# Altium integrated library Linear Technology Charge_Pump.IntLib: 599 symbols (part 11 of 29)
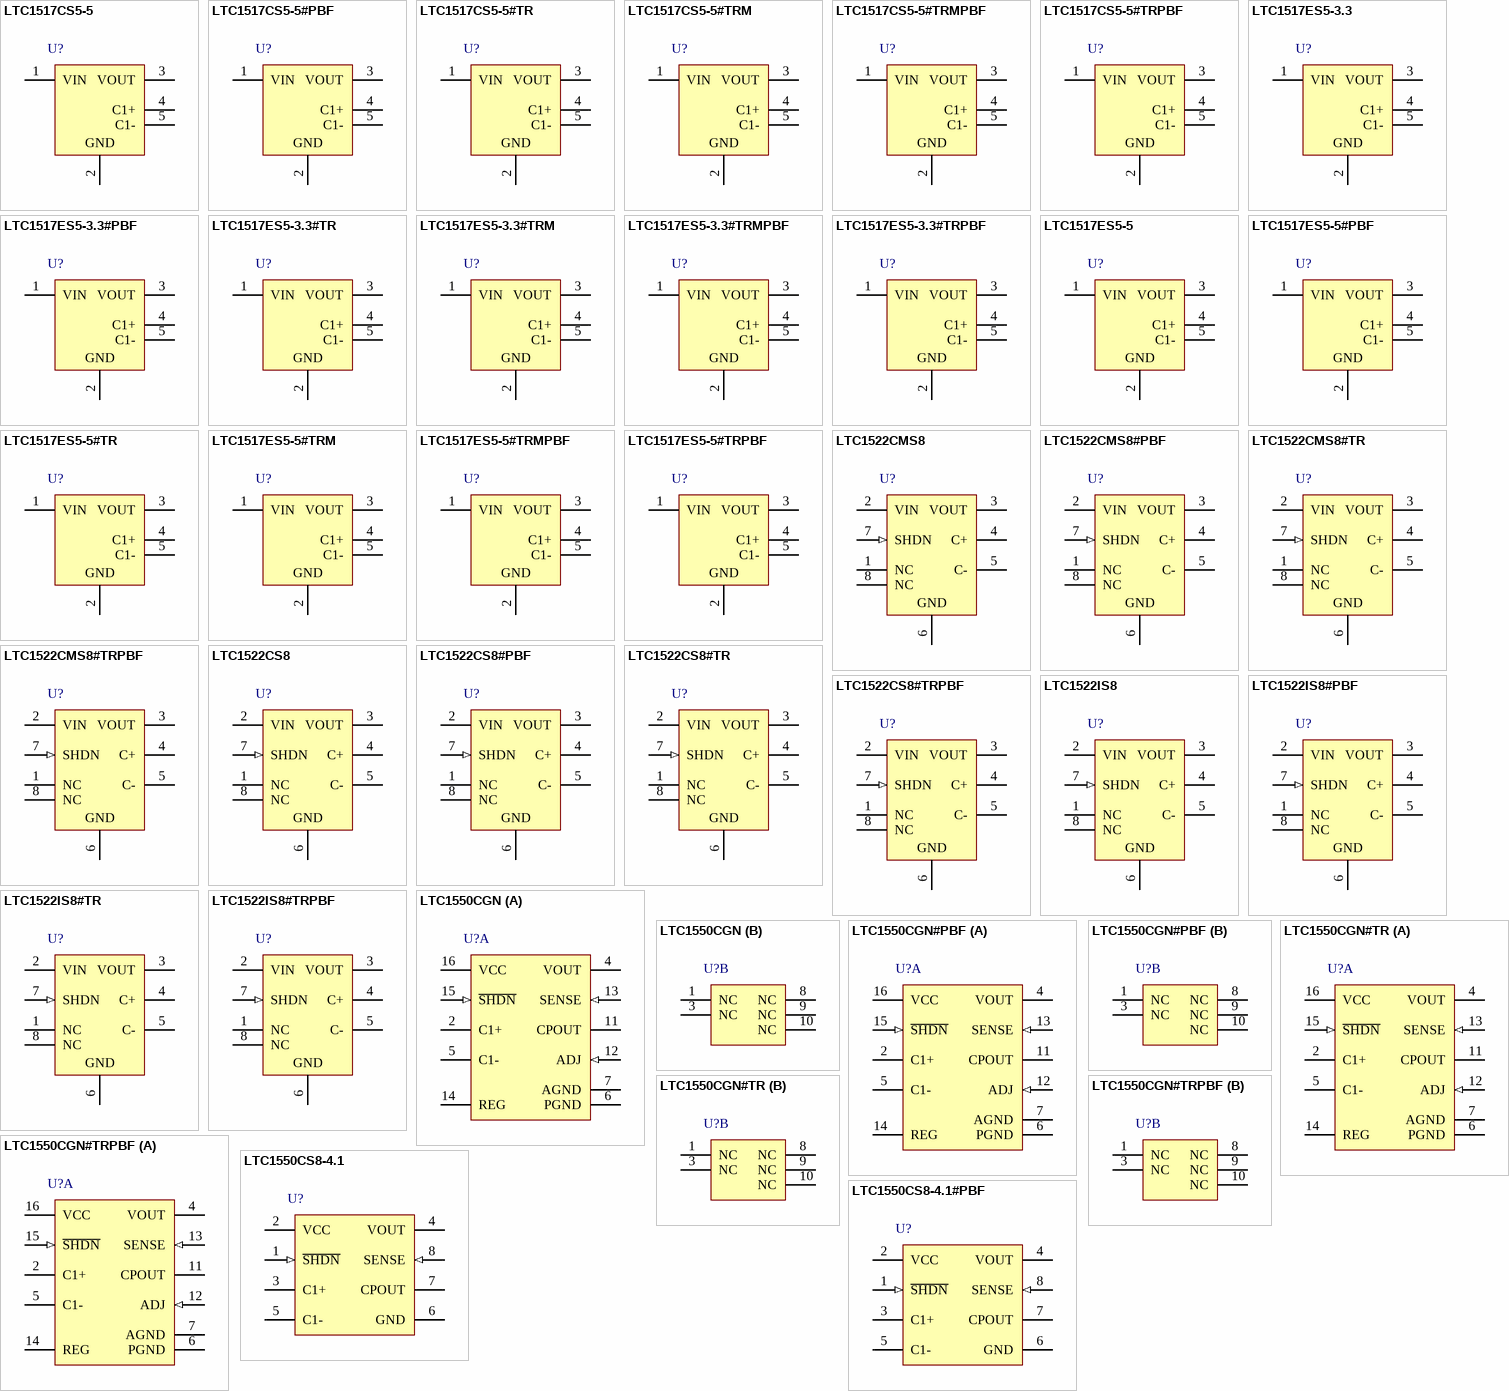
[diagram p26: symbols LTC1517CS5-5 to LTC1550CS8-4.1#PBF]

## LTC1522CS8
designator U?
Micropower, Regulated Charge Pump DC/DC Converter, 2.7 to 5 V Vin, 5 V Vout, 8-pin SOIC (S8-8), 0 to 70 degC; Manufacturer: Linear Technology; PartNumber: LTC1522CS8; Frequency(kHz): 700; Ishutdown(uA): 1; Isupply(mA): 0.006; Max Iout(mA): 20; Vin Max(V): 5; Vin Min(V): 2.7; Voutput: 5V; PackageVersion: Rev. G, 03/2012; PackageReference: S8-8; PackageDescription: 8-Pin Plastic Small Outline (Narrow .150 Inch), Body 4.9 x 3.9 mm, Pitch 1.27 mm; Supplier 1: Digi-Key; Supplier Part Number 1: LTC1522CS8-ND; RoHS: FALSE; Mounting Technology: Surface Mount; ComponentLink1Description: Manufacturer URL; ComponentLink1URL: http://www.linear.com/; ComponentLink2Description: Datasheet; ComponentLink2URL: http://cds.linear.com/docs/en/datasheet/1522f.pdf; ComponentLink3Description: Package Specification; ComponentLink3URL: http://cds.linear.com/docs/en/packaging/05081610_G_SO8.pdf
footprint LT-S8-8_N (SOIC, 8-Leads, Body 5x4mm, Pitch 1.27mm, IPC Medium Density)
footprint LT-S8-8_L (SOIC, 8-Leads, Body 5x4mm, Pitch 1.27mm, IPC High Density)
footprint LT-S8-8_M (SOIC, 8-Leads, Body 5x4mm, Pitch 1.27mm, IPC Low Density)
pins: 1 NC "No Connect.", 2 VIN (power) "Input Supply Voltage. Bypass VIN with a >=3.3uF low ESR capacitor.", 3 VOUT (power) "5V Output Voltage (VOUT  = 0V in Shutdown). Bypass VOUT with a >=3.3uF low ESR capacitor.", 4 C+ "Flying Capacitor, Positive Terminal.", 5 C- "Flying Capacitor, Negative Terminal.", 6 GND (power) "Ground.", 7 SHDN (in) "Active High CMOS Logic-Level Shutdown Input. Drive SHDN low to enable the DC/DC converter. Do not float.", 8 NC "No Connect."

## LTC1522CS8#PBF
designator U?
Micropower, Regulated Charge Pump DC/DC Converter, 2.7 to 5 V Vin, 5 V Vout, 8-pin SOIC (S8-8), 0 to 70 degC, Pb-Free; Manufacturer: Linear Technology; PartNumber: LTC1522CS8#PBF; Frequency(kHz): 700; Ishutdown(uA): 1; Isupply(mA): 0.006; Max Iout(mA): 20; Vin Max(V): 5; Vin Min(V): 2.7; Voutput: 5V; PackageVersion: Rev. G, 03/2012; PackageReference: S8-8; PackageDescription: 8-Pin Plastic Small Outline (Narrow .150 Inch), Body 4.9 x 3.9 mm, Pitch 1.27 mm; Supplier 1: Digi-Key; Supplier Part Number 1: LTC1522CS8#PBF-ND; Supplier 2: Farnell; Supplier Part Number 2: 1273879; Supplier 3: Newark; Supplier Part Number 3: 56M1785; RoHS: TRUE; Mounting Technology: Surface Mount; ComponentLink1Description: Manufacturer URL; ComponentLink1URL: http://www.linear.com/; ComponentLink2Description: Datasheet; ComponentLink2URL: http://cds.linear.com/docs/en/datasheet/1522f.pdf; ComponentLink3Description: Package Specification; ComponentLink3URL: http://cds.linear.com/docs/en/packaging/05081610_G_SO8.pdf
footprint LT-S8-8_N (SOIC, 8-Leads, Body 5x4mm, Pitch 1.27mm, IPC Medium Density)
footprint LT-S8-8_L (SOIC, 8-Leads, Body 5x4mm, Pitch 1.27mm, IPC High Density)
footprint LT-S8-8_M (SOIC, 8-Leads, Body 5x4mm, Pitch 1.27mm, IPC Low Density)
pins: 1 NC "No Connect.", 2 VIN (power) "Input Supply Voltage. Bypass VIN with a >=3.3uF low ESR capacitor.", 3 VOUT (power) "5V Output Voltage (VOUT  = 0V in Shutdown). Bypass VOUT with a >=3.3uF low ESR capacitor.", 4 C+ "Flying Capacitor, Positive Terminal.", 5 C- "Flying Capacitor, Negative Terminal.", 6 GND (power) "Ground.", 7 SHDN (in) "Active High CMOS Logic-Level Shutdown Input. Drive SHDN low to enable the DC/DC converter. Do not float.", 8 NC "No Connect."

## LTC1522CS8#TR
designator U?
Micropower, Regulated Charge Pump DC/DC Converter, 2.7 to 5 V Vin, 5 V Vout, 8-pin SOIC (S8-8), 0 to 70 degC, Tape and Reel; Manufacturer: Linear Technology; PartNumber: LTC1522CS8#TR; Frequency(kHz): 700; Ishutdown(uA): 1; Isupply(mA): 0.006; Max Iout(mA): 20; Vin Max(V): 5; Vin Min(V): 2.7; Voutput: 5V; PackageVersion: Rev. G, 03/2012; PackageReference: S8-8; PackageDescription: 8-Pin Plastic Small Outline (Narrow .150 Inch), Body 4.9 x 3.9 mm, Pitch 1.27 mm; Supplier 1: Digi-Key; Supplier Part Number 1: LTC1522CS8#TR-ND; Packing: Tape and Reel; RoHS: FALSE; Mounting Technology: Surface Mount; ComponentLink1Description: Manufacturer URL; ComponentLink1URL: http://www.linear.com/; ComponentLink2Description: Datasheet; ComponentLink2URL: http://cds.linear.com/docs/en/datasheet/1522f.pdf; ComponentLink3Description: Package Specification; ComponentLink3URL: http://cds.linear.com/docs/en/packaging/05081610_G_SO8.pdf
footprint LT-S8-8_N (SOIC, 8-Leads, Body 5x4mm, Pitch 1.27mm, IPC Medium Density)
footprint LT-S8-8_L (SOIC, 8-Leads, Body 5x4mm, Pitch 1.27mm, IPC High Density)
footprint LT-S8-8_M (SOIC, 8-Leads, Body 5x4mm, Pitch 1.27mm, IPC Low Density)
pins: 1 NC "No Connect.", 2 VIN (power) "Input Supply Voltage. Bypass VIN with a >=3.3uF low ESR capacitor.", 3 VOUT (power) "5V Output Voltage (VOUT  = 0V in Shutdown). Bypass VOUT with a >=3.3uF low ESR capacitor.", 4 C+ "Flying Capacitor, Positive Terminal.", 5 C- "Flying Capacitor, Negative Terminal.", 6 GND (power) "Ground.", 7 SHDN (in) "Active High CMOS Logic-Level Shutdown Input. Drive SHDN low to enable the DC/DC converter. Do not float.", 8 NC "No Connect."

## LTC1522CS8#TRPBF
designator U?
Micropower, Regulated Charge Pump DC/DC Converter, 2.7 to 5 V Vin, 5 V Vout, 8-pin SOIC (S8-8), 0 to 70 degC, Pb-Free, Tape and Reel; Manufacturer: Linear Technology; PartNumber: LTC1522CS8#TRPBF; Frequency(kHz): 700; Ishutdown(uA): 1; Isupply(mA): 0.006; Max Iout(mA): 20; Vin Max(V): 5; Vin Min(V): 2.7; Voutput: 5V; PackageVersion: Rev. G, 03/2012; PackageReference: S8-8; PackageDescription: 8-Pin Plastic Small Outline (Narrow .150 Inch), Body 4.9 x 3.9 mm, Pitch 1.27 mm; Supplier 1: Digi-Key; Supplier Part Number 1: LTC1522CS8#TRPBF-ND; Packing: Tape and Reel; RoHS: TRUE; Mounting Technology: Surface Mount; ComponentLink1Description: Manufacturer URL; ComponentLink1URL: http://www.linear.com/; ComponentLink2Description: Datasheet; ComponentLink2URL: http://cds.linear.com/docs/en/datasheet/1522f.pdf; ComponentLink3Description: Package Specification; ComponentLink3URL: http://cds.linear.com/docs/en/packaging/05081610_G_SO8.pdf
footprint LT-S8-8_N (SOIC, 8-Leads, Body 5x4mm, Pitch 1.27mm, IPC Medium Density)
footprint LT-S8-8_L (SOIC, 8-Leads, Body 5x4mm, Pitch 1.27mm, IPC High Density)
footprint LT-S8-8_M (SOIC, 8-Leads, Body 5x4mm, Pitch 1.27mm, IPC Low Density)
pins: 1 NC "No Connect.", 2 VIN (power) "Input Supply Voltage. Bypass VIN with a >=3.3uF low ESR capacitor.", 3 VOUT (power) "5V Output Voltage (VOUT  = 0V in Shutdown). Bypass VOUT with a >=3.3uF low ESR capacitor.", 4 C+ "Flying Capacitor, Positive Terminal.", 5 C- "Flying Capacitor, Negative Terminal.", 6 GND (power) "Ground.", 7 SHDN (in) "Active High CMOS Logic-Level Shutdown Input. Drive SHDN low to enable the DC/DC converter. Do not float.", 8 NC "No Connect."

## LTC1522IS8
designator U?
Micropower, Regulated Charge Pump DC/DC Converter, 2.7 to 5 V Vin, 5 V Vout, 8-pin SOIC (S8-8), -40 to 85 degC; Manufacturer: Linear Technology; PartNumber: LTC1522IS8; Frequency(kHz): 700; Ishutdown(uA): 1; Isupply(mA): 0.006; Max Iout(mA): 20; Vin Max(V): 5; Vin Min(V): 2.7; Voutput: 5V; PackageVersion: Rev. G, 03/2012; PackageReference: S8-8; PackageDescription: 8-Pin Plastic Small Outline (Narrow .150 Inch), Body 4.9 x 3.9 mm, Pitch 1.27 mm; Supplier 1: Digi-Key; Supplier Part Number 1: LTC1522IS8-ND; RoHS: FALSE; Mounting Technology: Surface Mount; ComponentLink1Description: Manufacturer URL; ComponentLink1URL: http://www.linear.com/; ComponentLink2Description: Datasheet; ComponentLink2URL: http://cds.linear.com/docs/en/datasheet/1522f.pdf; ComponentLink3Description: Package Specification; ComponentLink3URL: http://cds.linear.com/docs/en/packaging/05081610_G_SO8.pdf
footprint LT-S8-8_N (SOIC, 8-Leads, Body 5x4mm, Pitch 1.27mm, IPC Medium Density)
footprint LT-S8-8_L (SOIC, 8-Leads, Body 5x4mm, Pitch 1.27mm, IPC High Density)
footprint LT-S8-8_M (SOIC, 8-Leads, Body 5x4mm, Pitch 1.27mm, IPC Low Density)
pins: 1 NC "No Connect.", 2 VIN (power) "Input Supply Voltage. Bypass VIN with a >=3.3uF low ESR capacitor.", 3 VOUT (power) "5V Output Voltage (VOUT  = 0V in Shutdown). Bypass VOUT with a >=3.3uF low ESR capacitor.", 4 C+ "Flying Capacitor, Positive Terminal.", 5 C- "Flying Capacitor, Negative Terminal.", 6 GND (power) "Ground.", 7 SHDN (in) "Active High CMOS Logic-Level Shutdown Input. Drive SHDN low to enable the DC/DC converter. Do not float.", 8 NC "No Connect."

## LTC1522IS8#PBF
designator U?
Micropower, Regulated Charge Pump DC/DC Converter, 2.7 to 5 V Vin, 5 V Vout, 8-pin SOIC (S8-8), -40 to 85 degC, Pb-Free; Manufacturer: Linear Technology; PartNumber: LTC1522IS8#PBF; Frequency(kHz): 700; Ishutdown(uA): 1; Isupply(mA): 0.006; Max Iout(mA): 20; Vin Max(V): 5; Vin Min(V): 2.7; Voutput: 5V; PackageVersion: Rev. G, 03/2012; PackageReference: S8-8; PackageDescription: 8-Pin Plastic Small Outline (Narrow .150 Inch), Body 4.9 x 3.9 mm, Pitch 1.27 mm; Supplier 1: Digi-Key; Supplier Part Number 1: LTC1522IS8#PBF-ND; RoHS: TRUE; Mounting Technology: Surface Mount; ComponentLink1Description: Manufacturer URL; ComponentLink1URL: http://www.linear.com/; ComponentLink2Description: Datasheet; ComponentLink2URL: http://cds.linear.com/docs/en/datasheet/1522f.pdf; ComponentLink3Description: Package Specification; ComponentLink3URL: http://cds.linear.com/docs/en/packaging/05081610_G_SO8.pdf
footprint LT-S8-8_N (SOIC, 8-Leads, Body 5x4mm, Pitch 1.27mm, IPC Medium Density)
footprint LT-S8-8_L (SOIC, 8-Leads, Body 5x4mm, Pitch 1.27mm, IPC High Density)
footprint LT-S8-8_M (SOIC, 8-Leads, Body 5x4mm, Pitch 1.27mm, IPC Low Density)
pins: 1 NC "No Connect.", 2 VIN (power) "Input Supply Voltage. Bypass VIN with a >=3.3uF low ESR capacitor.", 3 VOUT (power) "5V Output Voltage (VOUT  = 0V in Shutdown). Bypass VOUT with a >=3.3uF low ESR capacitor.", 4 C+ "Flying Capacitor, Positive Terminal.", 5 C- "Flying Capacitor, Negative Terminal.", 6 GND (power) "Ground.", 7 SHDN (in) "Active High CMOS Logic-Level Shutdown Input. Drive SHDN low to enable the DC/DC converter. Do not float.", 8 NC "No Connect."

## LTC1522IS8#TR
designator U?
Micropower, Regulated Charge Pump DC/DC Converter, 2.7 to 5 V Vin, 5 V Vout, 8-pin SOIC (S8-8), -40 to 85 degC, Tape and Reel; Manufacturer: Linear Technology; PartNumber: LTC1522IS8#TR; Frequency(kHz): 700; Ishutdown(uA): 1; Isupply(mA): 0.006; Max Iout(mA): 20; Vin Max(V): 5; Vin Min(V): 2.7; Voutput: 5V; PackageVersion: Rev. G, 03/2012; PackageReference: S8-8; PackageDescription: 8-Pin Plastic Small Outline (Narrow .150 Inch), Body 4.9 x 3.9 mm, Pitch 1.27 mm; Supplier 1: Digi-Key; Supplier Part Number 1: LTC1522IS8#TR-ND; Packing: Tape and Reel; RoHS: FALSE; Mounting Technology: Surface Mount; ComponentLink1Description: Manufacturer URL; ComponentLink1URL: http://www.linear.com/; ComponentLink2Description: Datasheet; ComponentLink2URL: http://cds.linear.com/docs/en/datasheet/1522f.pdf; ComponentLink3Description: Package Specification; ComponentLink3URL: http://cds.linear.com/docs/en/packaging/05081610_G_SO8.pdf
footprint LT-S8-8_N (SOIC, 8-Leads, Body 5x4mm, Pitch 1.27mm, IPC Medium Density)
footprint LT-S8-8_L (SOIC, 8-Leads, Body 5x4mm, Pitch 1.27mm, IPC High Density)
footprint LT-S8-8_M (SOIC, 8-Leads, Body 5x4mm, Pitch 1.27mm, IPC Low Density)
pins: 1 NC "No Connect.", 2 VIN (power) "Input Supply Voltage. Bypass VIN with a >=3.3uF low ESR capacitor.", 3 VOUT (power) "5V Output Voltage (VOUT  = 0V in Shutdown). Bypass VOUT with a >=3.3uF low ESR capacitor.", 4 C+ "Flying Capacitor, Positive Terminal.", 5 C- "Flying Capacitor, Negative Terminal.", 6 GND (power) "Ground.", 7 SHDN (in) "Active High CMOS Logic-Level Shutdown Input. Drive SHDN low to enable the DC/DC converter. Do not float.", 8 NC "No Connect."

## LTC1522IS8#TRPBF
designator U?
Micropower, Regulated Charge Pump DC/DC Converter, 2.7 to 5 V Vin, 5 V Vout, 8-pin SOIC (S8-8), -40 to 85 degC, Pb-Free, Tape and Reel; Manufacturer: Linear Technology; PartNumber: LTC1522IS8#TRPBF; Frequency(kHz): 700; Ishutdown(uA): 1; Isupply(mA): 0.006; Max Iout(mA): 20; Vin Max(V): 5; Vin Min(V): 2.7; Voutput: 5V; PackageVersion: Rev. G, 03/2012; PackageReference: S8-8; PackageDescription: 8-Pin Plastic Small Outline (Narrow .150 Inch), Body 4.9 x 3.9 mm, Pitch 1.27 mm; Supplier 1: Digi-Key; Supplier Part Number 1: LTC1522IS8#TRPBF-ND; Packing: Tape and Reel; RoHS: TRUE; Mounting Technology: Surface Mount; ComponentLink1Description: Manufacturer URL; ComponentLink1URL: http://www.linear.com/; ComponentLink2Description: Datasheet; ComponentLink2URL: http://cds.linear.com/docs/en/datasheet/1522f.pdf; ComponentLink3Description: Package Specification; ComponentLink3URL: http://cds.linear.com/docs/en/packaging/05081610_G_SO8.pdf
footprint LT-S8-8_N (SOIC, 8-Leads, Body 5x4mm, Pitch 1.27mm, IPC Medium Density)
footprint LT-S8-8_L (SOIC, 8-Leads, Body 5x4mm, Pitch 1.27mm, IPC High Density)
footprint LT-S8-8_M (SOIC, 8-Leads, Body 5x4mm, Pitch 1.27mm, IPC Low Density)
pins: 1 NC "No Connect.", 2 VIN (power) "Input Supply Voltage. Bypass VIN with a >=3.3uF low ESR capacitor.", 3 VOUT (power) "5V Output Voltage (VOUT  = 0V in Shutdown). Bypass VOUT with a >=3.3uF low ESR capacitor.", 4 C+ "Flying Capacitor, Positive Terminal.", 5 C- "Flying Capacitor, Negative Terminal.", 6 GND (power) "Ground.", 7 SHDN (in) "Active High CMOS Logic-Level Shutdown Input. Drive SHDN low to enable the DC/DC converter. Do not float.", 8 NC "No Connect."

## LTC1550CGN
designator U?
Low Noise, Switched Capacitor Regulated Voltage Inverter, 2.7 to 6.5 V Vin, Adjustable Vout, 16-pin SOP (GN-16), 0 to 70 degC; Manufacturer: Linear Technology; PartNumber: LTC1550CGN; Frequency(kHz): 900; Ishutdown(uA): 0.1; Isupply(mA): 4.25; Max Iout(mA): 20; Vin Max(V): 6.5; Vin Min(V): 2.7; Voutput: Adj; DatasheetVersion: Rev. A; PackageVersion: Rev. B, 03/2012; PackageReference: GN-16; PackageDescription: 16-Pin Plastic SSOP, Body 4.9 x 3.9 mm, Pitch 0.635 mm; RoHS: FALSE; Mounting Technology: Surface Mount; ComponentLink1Description: Manufacturer URL; ComponentLink1URL: http://www.linear.com/; ComponentLink2Description: Datasheet; ComponentLink2URL: http://cds.linear.com/docs/en/datasheet/15501fa.pdf; ComponentLink3Description: Package Specification; ComponentLink3URL: http://cds.linear.com/docs/en/packaging/05081641_B_GN16.pdf
footprint LT-GN-16_N (SOP, 16-Leads, Body 5x4mm, Pitch 0.635mm, IPC Medium Density)
footprint LT-GN-16_L (SOP, 16-Leads, Body 5x4mm, Pitch 0.635mm, IPC High Density)
footprint LT-GN-16_M (SOP, 16-Leads, Body 5x4mm, Pitch 0.635mm, IPC Low Density)
part A pins: 2 C1+ "C1 Positive Input. Connect a 0.1uF capacitor between C1+ and C1-.", 4 VOUT (power) "Negative Voltage Output. This pin must be bypassed to ground with a 4.7uF or larger capacitor to ensure regulator loop stability. At least 10uF is recommended to provide specified output ripple. An additional 0.1uF low ESR (See Datasheet)", 5 C1- "C1 Negative Input. Connect a 0.1uF capacitor from C1+ to C1-.", 6 PGND (power) "Power Ground. Connect to a low impedance ground. PGND should be connected to the same potential as AGND.", 7 AGND (power) "Analog Ground. Connect to a low impedance ground. AGND should be connected to a ground plane to minimize regulation errors.", 11 CPOUT "Negative Charge Pump Output. This pin requires a 0.1uF storage capacitor to ground.", 12 ADJ (in) "For adjustable versions only, this is the feedback point for the external resistor divider string. Connect a divider string from AGND to VOUT with the divided tap connected to ADJ. Note that the resistor string needs to be (See Datasheet)", 13 SENSE (in) "Connect to VOUT. The LTC1550/LTC1551 internal regulator uses this pin to sense the output voltage. For optimum regulation, SENSE should be connected close to the output load.", 14 REG (oc) "This is an open-drain output that pulls low when the output voltage is within 5% of the set value. It will sink 7mA to ground with a 5V supply. The external circuitry must provide a pull-up or REG will not swing high. The (See Datasheet)", 15 ~{SHDN} (in) "Shutdown (TTL Compatible). This pin is active low (S\H\D\N\) for the LTC1550 and active high (SHDN) for the LTC1551. When this pin is at VCC (GND for LTC1551), the LTC1550 operates normally. When SHDN is pulled low (high for (See Datasheet)", 16 VCC (power) "Power Supply. VCC requires an input voltage between 4.5V and 6.5V for the fixed voltage LTC1550CS8-4.1/ LTC1551CS8-4.1. The adjustable voltage LTC1550CGN/ LTC1550IGN operates with a VCC range of 2.7V to 6.5V. Output voltage (See Datasheet)"
part B pins: 1 NC "No Internal Connection.", 3 NC "No Internal Connection.", 8 NC "No Internal Connection.", 9 NC "No Internal Connection.", 10 NC "No Internal Connection."

## LTC1550CGN#PBF
designator U?
Low Noise, Switched Capacitor Regulated Voltage Inverter, 2.7 to 6.5 V Vin, Adjustable Vout, 16-pin SOP (GN-16), 0 to 70 degC, Pb-Free; Manufacturer: Linear Technology; PartNumber: LTC1550CGN#PBF; Frequency(kHz): 900; Ishutdown(uA): 0.1; Isupply(mA): 4.25; Max Iout(mA): 20; Vin Max(V): 6.5; Vin Min(V): 2.7; Voutput: Adj; DatasheetVersion: Rev. A; PackageVersion: Rev. B, 03/2012; PackageReference: GN-16; PackageDescription: 16-Pin Plastic SSOP, Body 4.9 x 3.9 mm, Pitch 0.635 mm; Supplier 1: Digi-Key; Supplier Part Number 1: LTC1550CGN#PBF-ND; Supplier 2: Farnell; Supplier Part Number 2: 1273881; RoHS: TRUE; Mounting Technology: Surface Mount; ComponentLink1Description: Manufacturer URL; ComponentLink1URL: http://www.linear.com/; ComponentLink2Description: Datasheet; ComponentLink2URL: http://cds.linear.com/docs/en/datasheet/15501fa.pdf; ComponentLink3Description: Package Specification; ComponentLink3URL: http://cds.linear.com/docs/en/packaging/05081641_B_GN16.pdf
footprint LT-GN-16_N (SOP, 16-Leads, Body 5x4mm, Pitch 0.635mm, IPC Medium Density)
footprint LT-GN-16_L (SOP, 16-Leads, Body 5x4mm, Pitch 0.635mm, IPC High Density)
footprint LT-GN-16_M (SOP, 16-Leads, Body 5x4mm, Pitch 0.635mm, IPC Low Density)
part A pins: 2 C1+ "C1 Positive Input. Connect a 0.1uF capacitor between C1+ and C1-.", 4 VOUT (power) "Negative Voltage Output. This pin must be bypassed to ground with a 4.7uF or larger capacitor to ensure regulator loop stability. At least 10uF is recommended to provide specified output ripple. An additional 0.1uF low ESR (See Datasheet)", 5 C1- "C1 Negative Input. Connect a 0.1uF capacitor from C1+ to C1-.", 6 PGND (power) "Power Ground. Connect to a low impedance ground. PGND should be connected to the same potential as AGND.", 7 AGND (power) "Analog Ground. Connect to a low impedance ground. AGND should be connected to a ground plane to minimize regulation errors.", 11 CPOUT "Negative Charge Pump Output. This pin requires a 0.1uF storage capacitor to ground.", 12 ADJ (in) "For adjustable versions only, this is the feedback point for the external resistor divider string. Connect a divider string from AGND to VOUT with the divided tap connected to ADJ. Note that the resistor string needs to be (See Datasheet)", 13 SENSE (in) "Connect to VOUT. The LTC1550/LTC1551 internal regulator uses this pin to sense the output voltage. For optimum regulation, SENSE should be connected close to the output load.", 14 REG (oc) "This is an open-drain output that pulls low when the output voltage is within 5% of the set value. It will sink 7mA to ground with a 5V supply. The external circuitry must provide a pull-up or REG will not swing high. The (See Datasheet)", 15 ~{SHDN} (in) "Shutdown (TTL Compatible). This pin is active low (S\H\D\N\) for the LTC1550 and active high (SHDN) for the LTC1551. When this pin is at VCC (GND for LTC1551), the LTC1550 operates normally. When SHDN is pulled low (high for (See Datasheet)", 16 VCC (power) "Power Supply. VCC requires an input voltage between 4.5V and 6.5V for the fixed voltage LTC1550CS8-4.1/ LTC1551CS8-4.1. The adjustable voltage LTC1550CGN/ LTC1550IGN operates with a VCC range of 2.7V to 6.5V. Output voltage (See Datasheet)"
part B pins: 1 NC "No Internal Connection.", 3 NC "No Internal Connection.", 8 NC "No Internal Connection.", 9 NC "No Internal Connection.", 10 NC "No Internal Connection."

## LTC1550CGN#TR
designator U?
Low Noise, Switched Capacitor Regulated Voltage Inverter, 2.7 to 6.5 V Vin, Adjustable Vout, 16-pin SOP (GN-16), 0 to 70 degC, Tape and Reel; Manufacturer: Linear Technology; PartNumber: LTC1550CGN#TR; Frequency(kHz): 900; Ishutdown(uA): 0.1; Isupply(mA): 4.25; Max Iout(mA): 20; Vin Max(V): 6.5; Vin Min(V): 2.7; Voutput: Adj; DatasheetVersion: Rev. A; PackageVersion: Rev. B, 03/2012; PackageReference: GN-16; PackageDescription: 16-Pin Plastic SSOP, Body 4.9 x 3.9 mm, Pitch 0.635 mm; Supplier 1: Digi-Key; Supplier Part Number 1: LTC1550CGN#TR-ND; Packing: Tape and Reel; RoHS: FALSE; Mounting Technology: Surface Mount; ComponentLink1Description: Manufacturer URL; ComponentLink1URL: http://www.linear.com/; ComponentLink2Description: Datasheet; ComponentLink2URL: http://cds.linear.com/docs/en/datasheet/15501fa.pdf; ComponentLink3Description: Package Specification; ComponentLink3URL: http://cds.linear.com/docs/en/packaging/05081641_B_GN16.pdf
footprint LT-GN-16_N (SOP, 16-Leads, Body 5x4mm, Pitch 0.635mm, IPC Medium Density)
footprint LT-GN-16_L (SOP, 16-Leads, Body 5x4mm, Pitch 0.635mm, IPC High Density)
footprint LT-GN-16_M (SOP, 16-Leads, Body 5x4mm, Pitch 0.635mm, IPC Low Density)
part A pins: 2 C1+ "C1 Positive Input. Connect a 0.1uF capacitor between C1+ and C1-.", 4 VOUT (power) "Negative Voltage Output. This pin must be bypassed to ground with a 4.7uF or larger capacitor to ensure regulator loop stability. At least 10uF is recommended to provide specified output ripple. An additional 0.1uF low ESR (See Datasheet)", 5 C1- "C1 Negative Input. Connect a 0.1uF capacitor from C1+ to C1-.", 6 PGND (power) "Power Ground. Connect to a low impedance ground. PGND should be connected to the same potential as AGND.", 7 AGND (power) "Analog Ground. Connect to a low impedance ground. AGND should be connected to a ground plane to minimize regulation errors.", 11 CPOUT "Negative Charge Pump Output. This pin requires a 0.1uF storage capacitor to ground.", 12 ADJ (in) "For adjustable versions only, this is the feedback point for the external resistor divider string. Connect a divider string from AGND to VOUT with the divided tap connected to ADJ. Note that the resistor string needs to be (See Datasheet)", 13 SENSE (in) "Connect to VOUT. The LTC1550/LTC1551 internal regulator uses this pin to sense the output voltage. For optimum regulation, SENSE should be connected close to the output load.", 14 REG (oc) "This is an open-drain output that pulls low when the output voltage is within 5% of the set value. It will sink 7mA to ground with a 5V supply. The external circuitry must provide a pull-up or REG will not swing high. The (See Datasheet)", 15 ~{SHDN} (in) "Shutdown (TTL Compatible). This pin is active low (S\H\D\N\) for the LTC1550 and active high (SHDN) for the LTC1551. When this pin is at VCC (GND for LTC1551), the LTC1550 operates normally. When SHDN is pulled low (high for (See Datasheet)", 16 VCC (power) "Power Supply. VCC requires an input voltage between 4.5V and 6.5V for the fixed voltage LTC1550CS8-4.1/ LTC1551CS8-4.1. The adjustable voltage LTC1550CGN/ LTC1550IGN operates with a VCC range of 2.7V to 6.5V. Output voltage (See Datasheet)"
part B pins: 1 NC "No Internal Connection.", 3 NC "No Internal Connection.", 8 NC "No Internal Connection.", 9 NC "No Internal Connection.", 10 NC "No Internal Connection."

## LTC1550CGN#TRPBF
designator U?
Low Noise, Switched Capacitor Regulated Voltage Inverter, 2.7 to 6.5 V Vin, Adjustable Vout, 16-pin SOP (GN-16), 0 to 70 degC, Pb-Free, Tape and Reel; Manufacturer: Linear Technology; PartNumber: LTC1550CGN#TRPBF; Frequency(kHz): 900; Ishutdown(uA): 0.1; Isupply(mA): 4.25; Max Iout(mA): 20; Vin Max(V): 6.5; Vin Min(V): 2.7; Voutput: Adj; DatasheetVersion: Rev. A; PackageVersion: Rev. B, 03/2012; PackageReference: GN-16; PackageDescription: 16-Pin Plastic SSOP, Body 4.9 x 3.9 mm, Pitch 0.635 mm; Supplier 1: Digi-Key; Supplier Part Number 1: LTC1550CGN#TRPBF-ND; Packing: Tape and Reel; RoHS: TRUE; Mounting Technology: Surface Mount; ComponentLink1Description: Manufacturer URL; ComponentLink1URL: http://www.linear.com/; ComponentLink2Description: Datasheet; ComponentLink2URL: http://cds.linear.com/docs/en/datasheet/15501fa.pdf; ComponentLink3Description: Package Specification; ComponentLink3URL: http://cds.linear.com/docs/en/packaging/05081641_B_GN16.pdf
footprint LT-GN-16_N (SOP, 16-Leads, Body 5x4mm, Pitch 0.635mm, IPC Medium Density)
footprint LT-GN-16_L (SOP, 16-Leads, Body 5x4mm, Pitch 0.635mm, IPC High Density)
footprint LT-GN-16_M (SOP, 16-Leads, Body 5x4mm, Pitch 0.635mm, IPC Low Density)
part A pins: 2 C1+ "C1 Positive Input. Connect a 0.1uF capacitor between C1+ and C1-.", 4 VOUT (power) "Negative Voltage Output. This pin must be bypassed to ground with a 4.7uF or larger capacitor to ensure regulator loop stability. At least 10uF is recommended to provide specified output ripple. An additional 0.1uF low ESR (See Datasheet)", 5 C1- "C1 Negative Input. Connect a 0.1uF capacitor from C1+ to C1-.", 6 PGND (power) "Power Ground. Connect to a low impedance ground. PGND should be connected to the same potential as AGND.", 7 AGND (power) "Analog Ground. Connect to a low impedance ground. AGND should be connected to a ground plane to minimize regulation errors.", 11 CPOUT "Negative Charge Pump Output. This pin requires a 0.1uF storage capacitor to ground.", 12 ADJ (in) "For adjustable versions only, this is the feedback point for the external resistor divider string. Connect a divider string from AGND to VOUT with the divided tap connected to ADJ. Note that the resistor string needs to be (See Datasheet)", 13 SENSE (in) "Connect to VOUT. The LTC1550/LTC1551 internal regulator uses this pin to sense the output voltage. For optimum regulation, SENSE should be connected close to the output load.", 14 REG (oc) "This is an open-drain output that pulls low when the output voltage is within 5% of the set value. It will sink 7mA to ground with a 5V supply. The external circuitry must provide a pull-up or REG will not swing high. The (See Datasheet)", 15 ~{SHDN} (in) "Shutdown (TTL Compatible). This pin is active low (S\H\D\N\) for the LTC1550 and active high (SHDN) for the LTC1551. When this pin is at VCC (GND for LTC1551), the LTC1550 operates normally. When SHDN is pulled low (high for (See Datasheet)", 16 VCC (power) "Power Supply. VCC requires an input voltage between 4.5V and 6.5V for the fixed voltage LTC1550CS8-4.1/ LTC1551CS8-4.1. The adjustable voltage LTC1550CGN/ LTC1550IGN operates with a VCC range of 2.7V to 6.5V. Output voltage (See Datasheet)"
part B pins: 1 NC "No Internal Connection.", 3 NC "No Internal Connection.", 8 NC "No Internal Connection.", 9 NC "No Internal Connection.", 10 NC "No Internal Connection."

## LTC1550CS8-4.1
designator U?
Low Noise, Switched Capacitor Regulated Voltage Inverter, 4.5 to 6.5 V Vin, -4.1 V Vout, 8-pin SOIC (S8-8), 0 to 70 degC; Manufacturer: Linear Technology; PartNumber: LTC1550CS8-4.1; Frequency(kHz): 900; Ishutdown(uA): 0.1; Isupply(mA): 4.25; Max Iout(mA): 20; Vin Max(V): 6.5; Vin Min(V): 4.5; Voutput: -4.1V; DatasheetVersion: Rev. A; PackageVersion: Rev. G, 03/2012; PackageReference: S8-8; PackageDescription: 8-Pin Plastic Small Outline (Narrow .150 Inch), Body 4.9 x 3.9 mm, Pitch 1.27 mm; Supplier 1: Digi-Key; Supplier Part Number 1: LTC1550CS8-4.1-ND; RoHS: FALSE; Mounting Technology: Surface Mount; ComponentLink1Description: Manufacturer URL; ComponentLink1URL: http://www.linear.com/; ComponentLink2Description: Datasheet; ComponentLink2URL: http://cds.linear.com/docs/en/datasheet/15501fa.pdf; ComponentLink3Description: Package Specification; ComponentLink3URL: http://cds.linear.com/docs/en/packaging/05081610_G_SO8.pdf
footprint LT-S8-8_N (SOIC, 8-Leads, Body 5x4mm, Pitch 1.27mm, IPC Medium Density)
footprint LT-S8-8_L (SOIC, 8-Leads, Body 5x4mm, Pitch 1.27mm, IPC High Density)
footprint LT-S8-8_M (SOIC, 8-Leads, Body 5x4mm, Pitch 1.27mm, IPC Low Density)
pins: 1 ~{SHDN} (in) "Shutdown (TTL Compatible). This pin is active low (S\H\D\N\) for the LTC1550 and active high (SHDN) for the LTC1551. When this pin is at VCC (GND for LTC1551), the LTC1550 operates normally. When SHDN is pulled low (SHDN (See Datasheet)", 2 VCC (power) "Power Supply. VCC requires an input voltage between   4.5V and 6.5V for the fixed voltage LTC1550CS8-4.1/ LTC1551CS8-4.1. The adjustable voltage LTC1550CGN/LTC1550IGN operates with a VCC range of 2.7V to 6.5V.   Output (See Datasheet)", 3 C1+ "C1 Positive Input. Connect a 0.1uF capacitor between C1+ and C1-.", 4 VOUT (power) "Negative Voltage Output. This pin must be bypassed with a 4.7uF or larger capacitor to ensure regulator loop stability. LTC recommends at least 10uFto achieve the specified output ripple. The output capacitor should be a (See Datasheet)", 5 C1- "C1 Negative Input. Connect a 0.1uF capacitor from C1+ to C1-.", 6 GND (power) "Ground. Connect to a low impedance ground. A ground plane will help minimize regulation errors.", 7 CPOUT "Negative Charge Pump Output. This pin requires a 0.1uF storage capacitor to ground. In order to achieve ripple on the output voltage of less than 1mV, the ground connection for the CPOUT capacitor must tie directly to the (See Datasheet)", 8 SENSE (in) "Connect to VOUT. The LTC1550/LTC1551 internal regulator uses this pin to sense the output voltage. For optimum regulation, SENSE should be connected close to the output load"

## LTC1550CS8-4.1#PBF
designator U?
Low Noise, Switched Capacitor Regulated Voltage Inverter, 4.5 to 6.5 V Vin, -4.1 V Vout, 8-pin SOIC (S8-8), 0 to 70 degC, Pb-Free; Manufacturer: Linear Technology; PartNumber: LTC1550CS8-4.1#PBF; Frequency(kHz): 900; Ishutdown(uA): 0.1; Isupply(mA): 4.25; Max Iout(mA): 20; Vin Max(V): 6.5; Vin Min(V): 4.5; Voutput: -4.1V; DatasheetVersion: Rev. A; PackageVersion: Rev. G, 03/2012; PackageReference: S8-8; PackageDescription: 8-Pin Plastic Small Outline (Narrow .150 Inch), Body 4.9 x 3.9 mm, Pitch 1.27 mm; Supplier 1: Digi-Key; Supplier Part Number 1: LTC1550CS8-4.1#PBF-ND; RoHS: TRUE; Mounting Technology: Surface Mount; ComponentLink1Description: Manufacturer URL; ComponentLink1URL: http://www.linear.com/; ComponentLink2Description: Datasheet; ComponentLink2URL: http://cds.linear.com/docs/en/datasheet/15501fa.pdf; ComponentLink3Description: Package Specification; ComponentLink3URL: http://cds.linear.com/docs/en/packaging/05081610_G_SO8.pdf
footprint LT-S8-8_N (SOIC, 8-Leads, Body 5x4mm, Pitch 1.27mm, IPC Medium Density)
footprint LT-S8-8_L (SOIC, 8-Leads, Body 5x4mm, Pitch 1.27mm, IPC High Density)
footprint LT-S8-8_M (SOIC, 8-Leads, Body 5x4mm, Pitch 1.27mm, IPC Low Density)
pins: 1 ~{SHDN} (in) "Shutdown (TTL Compatible). This pin is active low (S\H\D\N\) for the LTC1550 and active high (SHDN) for the LTC1551. When this pin is at VCC (GND for LTC1551), the LTC1550 operates normally. When SHDN is pulled low (SHDN (See Datasheet)", 2 VCC (power) "Power Supply. VCC requires an input voltage between   4.5V and 6.5V for the fixed voltage LTC1550CS8-4.1/ LTC1551CS8-4.1. The adjustable voltage LTC1550CGN/LTC1550IGN operates with a VCC range of 2.7V to 6.5V.   Output (See Datasheet)", 3 C1+ "C1 Positive Input. Connect a 0.1uF capacitor between C1+ and C1-.", 4 VOUT (power) "Negative Voltage Output. This pin must be bypassed with a 4.7uF or larger capacitor to ensure regulator loop stability. LTC recommends at least 10uFto achieve the specified output ripple. The output capacitor should be a (See Datasheet)", 5 C1- "C1 Negative Input. Connect a 0.1uF capacitor from C1+ to C1-.", 6 GND (power) "Ground. Connect to a low impedance ground. A ground plane will help minimize regulation errors.", 7 CPOUT "Negative Charge Pump Output. This pin requires a 0.1uF storage capacitor to ground. In order to achieve ripple on the output voltage of less than 1mV, the ground connection for the CPOUT capacitor must tie directly to the (See Datasheet)", 8 SENSE (in) "Connect to VOUT. The LTC1550/LTC1551 internal regulator uses this pin to sense the output voltage. For optimum regulation, SENSE should be connected close to the output load"

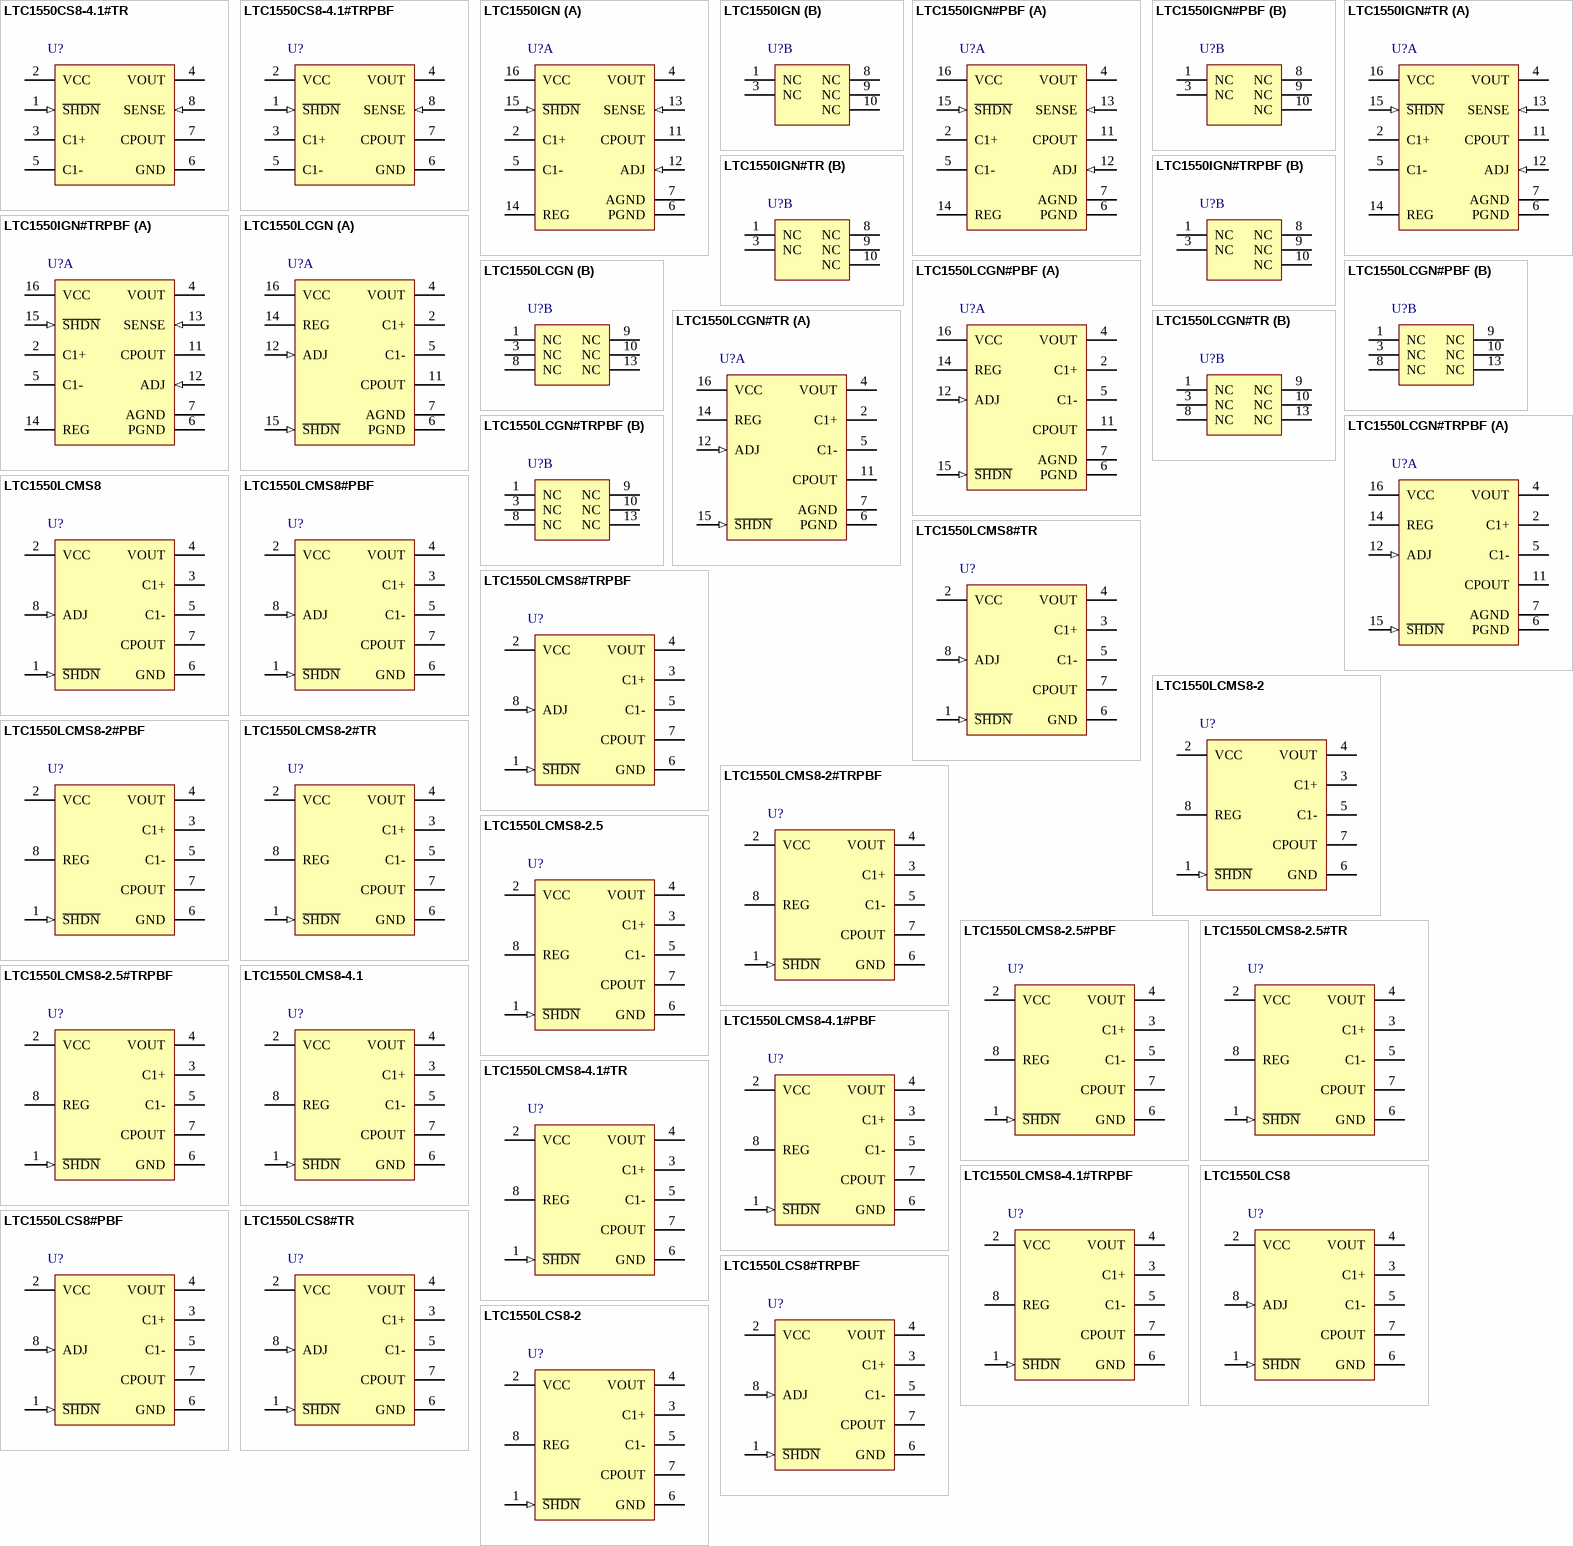
[diagram p7: symbols LTC1550CS8-4.1#TR to LTC1550LCS8-2]

## LTC1550CS8-4.1#TR
designator U?
Low Noise, Switched Capacitor Regulated Voltage Inverter, 4.5 to 6.5 V Vin, -4.1 V Vout, 8-pin SOIC (S8-8), 0 to 70 degC, Tape and Reel; Manufacturer: Linear Technology; PartNumber: LTC1550CS8-4.1#TR; Frequency(kHz): 900; Ishutdown(uA): 0.1; Isupply(mA): 4.25; Max Iout(mA): 20; Vin Max(V): 6.5; Vin Min(V): 4.5; Voutput: -4.1V; DatasheetVersion: Rev. A; PackageVersion: Rev. G, 03/2012; PackageReference: S8-8; PackageDescription: 8-Pin Plastic Small Outline (Narrow .150 Inch), Body 4.9 x 3.9 mm, Pitch 1.27 mm; Supplier 1: Digi-Key; Supplier Part Number 1: LTC1550CS8-4.1#TR-ND; Packing: Tape and Reel; RoHS: FALSE; Mounting Technology: Surface Mount; ComponentLink1Description: Manufacturer URL; ComponentLink1URL: http://www.linear.com/; ComponentLink2Description: Datasheet; ComponentLink2URL: http://cds.linear.com/docs/en/datasheet/15501fa.pdf; ComponentLink3Description: Package Specification; ComponentLink3URL: http://cds.linear.com/docs/en/packaging/05081610_G_SO8.pdf
footprint LT-S8-8_N (SOIC, 8-Leads, Body 5x4mm, Pitch 1.27mm, IPC Medium Density)
footprint LT-S8-8_L (SOIC, 8-Leads, Body 5x4mm, Pitch 1.27mm, IPC High Density)
footprint LT-S8-8_M (SOIC, 8-Leads, Body 5x4mm, Pitch 1.27mm, IPC Low Density)
pins: 1 ~{SHDN} (in) "Shutdown (TTL Compatible). This pin is active low (S\H\D\N\) for the LTC1550 and active high (SHDN) for the LTC1551. When this pin is at VCC (GND for LTC1551), the LTC1550 operates normally. When SHDN is pulled low (SHDN (See Datasheet)", 2 VCC (power) "Power Supply. VCC requires an input voltage between   4.5V and 6.5V for the fixed voltage LTC1550CS8-4.1/ LTC1551CS8-4.1. The adjustable voltage LTC1550CGN/LTC1550IGN operates with a VCC range of 2.7V to 6.5V.   Output (See Datasheet)", 3 C1+ "C1 Positive Input. Connect a 0.1uF capacitor between C1+ and C1-.", 4 VOUT (power) "Negative Voltage Output. This pin must be bypassed with a 4.7uF or larger capacitor to ensure regulator loop stability. LTC recommends at least 10uFto achieve the specified output ripple. The output capacitor should be a (See Datasheet)", 5 C1- "C1 Negative Input. Connect a 0.1uF capacitor from C1+ to C1-.", 6 GND (power) "Ground. Connect to a low impedance ground. A ground plane will help minimize regulation errors.", 7 CPOUT "Negative Charge Pump Output. This pin requires a 0.1uF storage capacitor to ground. In order to achieve ripple on the output voltage of less than 1mV, the ground connection for the CPOUT capacitor must tie directly to the (See Datasheet)", 8 SENSE (in) "Connect to VOUT. The LTC1550/LTC1551 internal regulator uses this pin to sense the output voltage. For optimum regulation, SENSE should be connected close to the output load"

## LTC1550CS8-4.1#TRPBF
designator U?
Low Noise, Switched Capacitor Regulated Voltage Inverter, 4.5 to 6.5 V Vin, -4.1 V Vout, 8-pin SOIC (S8-8), 0 to 70 degC, Pb-Free, Tape and Reel; Manufacturer: Linear Technology; PartNumber: LTC1550CS8-4.1#TRPBF; Frequency(kHz): 900; Ishutdown(uA): 0.1; Isupply(mA): 4.25; Max Iout(mA): 20; Vin Max(V): 6.5; Vin Min(V): 4.5; Voutput: -4.1V; DatasheetVersion: Rev. A; PackageVersion: Rev. G, 03/2012; PackageReference: S8-8; PackageDescription: 8-Pin Plastic Small Outline (Narrow .150 Inch), Body 4.9 x 3.9 mm, Pitch 1.27 mm; Supplier 1: Digi-Key; Supplier Part Number 1: LTC1550CS8-4.1#TRPBF-ND; Packing: Tape and Reel; RoHS: TRUE; Mounting Technology: Surface Mount; ComponentLink1Description: Manufacturer URL; ComponentLink1URL: http://www.linear.com/; ComponentLink2Description: Datasheet; ComponentLink2URL: http://cds.linear.com/docs/en/datasheet/15501fa.pdf; ComponentLink3Description: Package Specification; ComponentLink3URL: http://cds.linear.com/docs/en/packaging/05081610_G_SO8.pdf
footprint LT-S8-8_N (SOIC, 8-Leads, Body 5x4mm, Pitch 1.27mm, IPC Medium Density)
footprint LT-S8-8_L (SOIC, 8-Leads, Body 5x4mm, Pitch 1.27mm, IPC High Density)
footprint LT-S8-8_M (SOIC, 8-Leads, Body 5x4mm, Pitch 1.27mm, IPC Low Density)
pins: 1 ~{SHDN} (in) "Shutdown (TTL Compatible). This pin is active low (S\H\D\N\) for the LTC1550 and active high (SHDN) for the LTC1551. When this pin is at VCC (GND for LTC1551), the LTC1550 operates normally. When SHDN is pulled low (SHDN (See Datasheet)", 2 VCC (power) "Power Supply. VCC requires an input voltage between   4.5V and 6.5V for the fixed voltage LTC1550CS8-4.1/ LTC1551CS8-4.1. The adjustable voltage LTC1550CGN/LTC1550IGN operates with a VCC range of 2.7V to 6.5V.   Output (See Datasheet)", 3 C1+ "C1 Positive Input. Connect a 0.1uF capacitor between C1+ and C1-.", 4 VOUT (power) "Negative Voltage Output. This pin must be bypassed with a 4.7uF or larger capacitor to ensure regulator loop stability. LTC recommends at least 10uFto achieve the specified output ripple. The output capacitor should be a (See Datasheet)", 5 C1- "C1 Negative Input. Connect a 0.1uF capacitor from C1+ to C1-.", 6 GND (power) "Ground. Connect to a low impedance ground. A ground plane will help minimize regulation errors.", 7 CPOUT "Negative Charge Pump Output. This pin requires a 0.1uF storage capacitor to ground. In order to achieve ripple on the output voltage of less than 1mV, the ground connection for the CPOUT capacitor must tie directly to the (See Datasheet)", 8 SENSE (in) "Connect to VOUT. The LTC1550/LTC1551 internal regulator uses this pin to sense the output voltage. For optimum regulation, SENSE should be connected close to the output load"

## LTC1550IGN
designator U?
Low Noise, Switched Capacitor Regulated Voltage Inverter, 2.7 to 6.5 V Vin, Adjustable Vout, 16-pin SOP (GN-16), -40 to 85 degC; Manufacturer: Linear Technology; PartNumber: LTC1550IGN; Frequency(kHz): 900; Ishutdown(uA): 0.1; Isupply(mA): 4.25; Max Iout(mA): 20; Vin Max(V): 6.5; Vin Min(V): 2.7; Voutput: Adj; DatasheetVersion: Rev. A; PackageVersion: Rev. B, 03/2012; PackageReference: GN-16; PackageDescription: 16-Pin Plastic SSOP, Body 4.9 x 3.9 mm, Pitch 0.635 mm; Supplier 1: Digi-Key; Supplier Part Number 1: LTC1550IGN-ND; RoHS: FALSE; Mounting Technology: Surface Mount; ComponentLink1Description: Manufacturer URL; ComponentLink1URL: http://www.linear.com/; ComponentLink2Description: Datasheet; ComponentLink2URL: http://cds.linear.com/docs/en/datasheet/15501fa.pdf; ComponentLink3Description: Package Specification; ComponentLink3URL: http://cds.linear.com/docs/en/packaging/05081641_B_GN16.pdf
footprint LT-GN-16_N (SOP, 16-Leads, Body 5x4mm, Pitch 0.635mm, IPC Medium Density)
footprint LT-GN-16_L (SOP, 16-Leads, Body 5x4mm, Pitch 0.635mm, IPC High Density)
footprint LT-GN-16_M (SOP, 16-Leads, Body 5x4mm, Pitch 0.635mm, IPC Low Density)
part A pins: 2 C1+ "C1 Positive Input. Connect a 0.1uF capacitor between C1+ and C1-.", 4 VOUT (power) "Negative Voltage Output. This pin must be bypassed to ground with a 4.7uF or larger capacitor to ensure regulator loop stability. At least 10uF is recommended to provide specified output ripple. An additional 0.1uF low ESR (See Datasheet)", 5 C1- "C1 Negative Input. Connect a 0.1uF capacitor from C1+ to C1-.", 6 PGND (power) "Power Ground. Connect to a low impedance ground. PGND should be connected to the same potential as AGND.", 7 AGND (power) "Analog Ground. Connect to a low impedance ground. AGND should be connected to a ground plane to minimize regulation errors.", 11 CPOUT "Negative Charge Pump Output. This pin requires a 0.1uF storage capacitor to ground.", 12 ADJ (in) "For adjustable versions only, this is the feedback point for the external resistor divider string. Connect a divider string from AGND to VOUT with the divided tap connected to ADJ. Note that the resistor string needs to be (See Datasheet)", 13 SENSE (in) "Connect to VOUT. The LTC1550/LTC1551 internal regulator uses this pin to sense the output voltage. For optimum regulation, SENSE should be connected close to the output load.", 14 REG (oc) "This is an open-drain output that pulls low when the output voltage is within 5% of the set value. It will sink 7mA to ground with a 5V supply. The external circuitry must provide a pull-up or REG will not swing high. The (See Datasheet)", 15 ~{SHDN} (in) "Shutdown (TTL Compatible). This pin is active low (S\H\D\N\) for the LTC1550 and active high (SHDN) for the LTC1551. When this pin is at VCC (GND for LTC1551), the LTC1550 operates normally. When SHDN is pulled low (high for (See Datasheet)", 16 VCC (power) "Power Supply. VCC requires an input voltage between 4.5V and 6.5V for the fixed voltage LTC1550CS8-4.1/ LTC1551CS8-4.1. The adjustable voltage LTC1550CGN/ LTC1550IGN operates with a VCC range of 2.7V to 6.5V. Output voltage (See Datasheet)"
part B pins: 1 NC "No Internal Connection.", 3 NC "No Internal Connection.", 8 NC "No Internal Connection.", 9 NC "No Internal Connection.", 10 NC "No Internal Connection."

## LTC1550IGN#PBF
designator U?
Low Noise, Switched Capacitor Regulated Voltage Inverter, 2.7 to 6.5 V Vin, Adjustable Vout, 16-pin SOP (GN-16), -40 to 85 degC, Pb-Free; Manufacturer: Linear Technology; PartNumber: LTC1550IGN#PBF; Frequency(kHz): 900; Ishutdown(uA): 0.1; Isupply(mA): 4.25; Max Iout(mA): 20; Vin Max(V): 6.5; Vin Min(V): 2.7; Voutput: Adj; DatasheetVersion: Rev. A; PackageVersion: Rev. B, 03/2012; PackageReference: GN-16; PackageDescription: 16-Pin Plastic SSOP, Body 4.9 x 3.9 mm, Pitch 0.635 mm; Supplier 1: Digi-Key; Supplier Part Number 1: LTC1550IGN#PBF-ND; Supplier 2: Newark; Supplier Part Number 2: 56M1969; RoHS: TRUE; Mounting Technology: Surface Mount; ComponentLink1Description: Manufacturer URL; ComponentLink1URL: http://www.linear.com/; ComponentLink2Description: Datasheet; ComponentLink2URL: http://cds.linear.com/docs/en/datasheet/15501fa.pdf; ComponentLink3Description: Package Specification; ComponentLink3URL: http://cds.linear.com/docs/en/packaging/05081641_B_GN16.pdf
footprint LT-GN-16_N (SOP, 16-Leads, Body 5x4mm, Pitch 0.635mm, IPC Medium Density)
footprint LT-GN-16_L (SOP, 16-Leads, Body 5x4mm, Pitch 0.635mm, IPC High Density)
footprint LT-GN-16_M (SOP, 16-Leads, Body 5x4mm, Pitch 0.635mm, IPC Low Density)
part A pins: 2 C1+ "C1 Positive Input. Connect a 0.1uF capacitor between C1+ and C1-.", 4 VOUT (power) "Negative Voltage Output. This pin must be bypassed to ground with a 4.7uF or larger capacitor to ensure regulator loop stability. At least 10uF is recommended to provide specified output ripple. An additional 0.1uF low ESR (See Datasheet)", 5 C1- "C1 Negative Input. Connect a 0.1uF capacitor from C1+ to C1-.", 6 PGND (power) "Power Ground. Connect to a low impedance ground. PGND should be connected to the same potential as AGND.", 7 AGND (power) "Analog Ground. Connect to a low impedance ground. AGND should be connected to a ground plane to minimize regulation errors.", 11 CPOUT "Negative Charge Pump Output. This pin requires a 0.1uF storage capacitor to ground.", 12 ADJ (in) "For adjustable versions only, this is the feedback point for the external resistor divider string. Connect a divider string from AGND to VOUT with the divided tap connected to ADJ. Note that the resistor string needs to be (See Datasheet)", 13 SENSE (in) "Connect to VOUT. The LTC1550/LTC1551 internal regulator uses this pin to sense the output voltage. For optimum regulation, SENSE should be connected close to the output load.", 14 REG (oc) "This is an open-drain output that pulls low when the output voltage is within 5% of the set value. It will sink 7mA to ground with a 5V supply. The external circuitry must provide a pull-up or REG will not swing high. The (See Datasheet)", 15 ~{SHDN} (in) "Shutdown (TTL Compatible). This pin is active low (S\H\D\N\) for the LTC1550 and active high (SHDN) for the LTC1551. When this pin is at VCC (GND for LTC1551), the LTC1550 operates normally. When SHDN is pulled low (high for (See Datasheet)", 16 VCC (power) "Power Supply. VCC requires an input voltage between 4.5V and 6.5V for the fixed voltage LTC1550CS8-4.1/ LTC1551CS8-4.1. The adjustable voltage LTC1550CGN/ LTC1550IGN operates with a VCC range of 2.7V to 6.5V. Output voltage (See Datasheet)"
part B pins: 1 NC "No Internal Connection.", 3 NC "No Internal Connection.", 8 NC "No Internal Connection.", 9 NC "No Internal Connection.", 10 NC "No Internal Connection."

## LTC1550IGN#TR
designator U?
Low Noise, Switched Capacitor Regulated Voltage Inverter, 2.7 to 6.5 V Vin, Adjustable Vout, 16-pin SOP (GN-16), -40 to 85 degC, Tape and Reel; Manufacturer: Linear Technology; PartNumber: LTC1550IGN#TR; Frequency(kHz): 900; Ishutdown(uA): 0.1; Isupply(mA): 4.25; Max Iout(mA): 20; Vin Max(V): 6.5; Vin Min(V): 2.7; Voutput: Adj; DatasheetVersion: Rev. A; PackageVersion: Rev. B, 03/2012; PackageReference: GN-16; PackageDescription: 16-Pin Plastic SSOP, Body 4.9 x 3.9 mm, Pitch 0.635 mm; Supplier 1: Digi-Key; Supplier Part Number 1: LTC1550IGN#TR-ND; Packing: Tape and Reel; RoHS: FALSE; Mounting Technology: Surface Mount; ComponentLink1Description: Manufacturer URL; ComponentLink1URL: http://www.linear.com/; ComponentLink2Description: Datasheet; ComponentLink2URL: http://cds.linear.com/docs/en/datasheet/15501fa.pdf; ComponentLink3Description: Package Specification; ComponentLink3URL: http://cds.linear.com/docs/en/packaging/05081641_B_GN16.pdf
footprint LT-GN-16_N (SOP, 16-Leads, Body 5x4mm, Pitch 0.635mm, IPC Medium Density)
footprint LT-GN-16_L (SOP, 16-Leads, Body 5x4mm, Pitch 0.635mm, IPC High Density)
footprint LT-GN-16_M (SOP, 16-Leads, Body 5x4mm, Pitch 0.635mm, IPC Low Density)
part A pins: 2 C1+ "C1 Positive Input. Connect a 0.1uF capacitor between C1+ and C1-.", 4 VOUT (power) "Negative Voltage Output. This pin must be bypassed to ground with a 4.7uF or larger capacitor to ensure regulator loop stability. At least 10uF is recommended to provide specified output ripple. An additional 0.1uF low ESR (See Datasheet)", 5 C1- "C1 Negative Input. Connect a 0.1uF capacitor from C1+ to C1-.", 6 PGND (power) "Power Ground. Connect to a low impedance ground. PGND should be connected to the same potential as AGND.", 7 AGND (power) "Analog Ground. Connect to a low impedance ground. AGND should be connected to a ground plane to minimize regulation errors.", 11 CPOUT "Negative Charge Pump Output. This pin requires a 0.1uF storage capacitor to ground.", 12 ADJ (in) "For adjustable versions only, this is the feedback point for the external resistor divider string. Connect a divider string from AGND to VOUT with the divided tap connected to ADJ. Note that the resistor string needs to be (See Datasheet)", 13 SENSE (in) "Connect to VOUT. The LTC1550/LTC1551 internal regulator uses this pin to sense the output voltage. For optimum regulation, SENSE should be connected close to the output load.", 14 REG (oc) "This is an open-drain output that pulls low when the output voltage is within 5% of the set value. It will sink 7mA to ground with a 5V supply. The external circuitry must provide a pull-up or REG will not swing high. The (See Datasheet)", 15 ~{SHDN} (in) "Shutdown (TTL Compatible). This pin is active low (S\H\D\N\) for the LTC1550 and active high (SHDN) for the LTC1551. When this pin is at VCC (GND for LTC1551), the LTC1550 operates normally. When SHDN is pulled low (high for (See Datasheet)", 16 VCC (power) "Power Supply. VCC requires an input voltage between 4.5V and 6.5V for the fixed voltage LTC1550CS8-4.1/ LTC1551CS8-4.1. The adjustable voltage LTC1550CGN/ LTC1550IGN operates with a VCC range of 2.7V to 6.5V. Output voltage (See Datasheet)"
part B pins: 1 NC "No Internal Connection.", 3 NC "No Internal Connection.", 8 NC "No Internal Connection.", 9 NC "No Internal Connection.", 10 NC "No Internal Connection."